# Altium footprint library Транзисторы.PcbLib: 6 footprints
Each footprint in its own frame and in the unit in brackets; x right, y up, seen from the top. Pads: shape width x height; smd on the part's side, far side on the other; paste and mask are expansions set on the pad; w line width, h text height; cw(c..) or ccw(c..) is an arc to the next point about the centre after c.
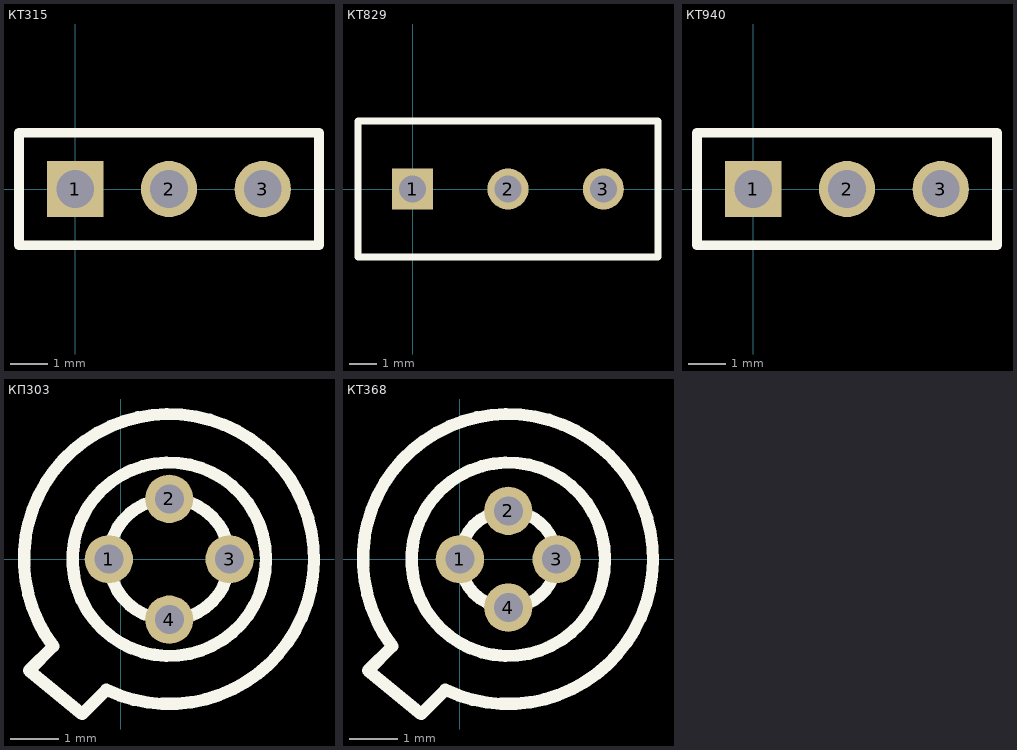
[diagram p0: the footprints below, top view; thin cyan lines are the x and y axes]

## PCBComponent_1 [mm]

## КT315 [mm]
pads (3):
  rect 1.5x1.5 hole 1: 1(0,0)
  round 1.5 hole 1: 2(2.5,0) 3(5,0)
Top Overlay:
  lines w0.254: -1.5,-1.5 6.5,-1.5 6.5,1.5 -1.5,1.5 -1.5,-1.5

## КT829 [mm]
pads (3):
  rect 1.5x1.5 hole 1: 1(0,0)
  round 1.5 hole 1: 2(3.5,0) 3(7,0)
Top Overlay:
  lines w0.254: -2,-2.5 9,-2.5 9,2.5 -2,2.5 -2,-2.5

## КT940 [mm]
pads (3):
  rect 1.5x1.5 hole 1: 1(0,0)
  round 1.5 hole 1: 2(2.5,0) 3(5,0)
Top Overlay:
  lines w0.254: -1.5,-1.5 6.5,-1.5 6.5,1.5 -1.5,1.5 -1.5,-1.5

## КП303 [mm]
pads (4):
  round 1 hole 0.6: 1(-0.25,0) 2(1,1.25) 3(2.25,0) 4(1,-1.25)
Top Overlay:
  circle w0.254: c1,0 r1.25
  circle w0.254: c1,0 r2
  lines w0.254: -0.301,-2.7 ccw(c0.995,0.004) -1.4,-1.8 -1.9,-2.3 -0.8,-3.2 -0.3,-2.7

## КТ368 [mm]
pads (4):
  round 1 hole 0.6: 1(0,0) 2(1,1) 3(2,0) 4(1,-1)
Top Overlay:
  circle w0.254: c1,0 r2
  circle w0.254: c1,0 r1
  lines w0.254: -0.301,-2.7 ccw(c0.995,0.004) -1.4,-1.8 -1.9,-2.3 -0.8,-3.2 -0.3,-2.7